# Altium schematic symbol library Project_Oshinoko.SchLib: 248 symbols (part 3 of 3)
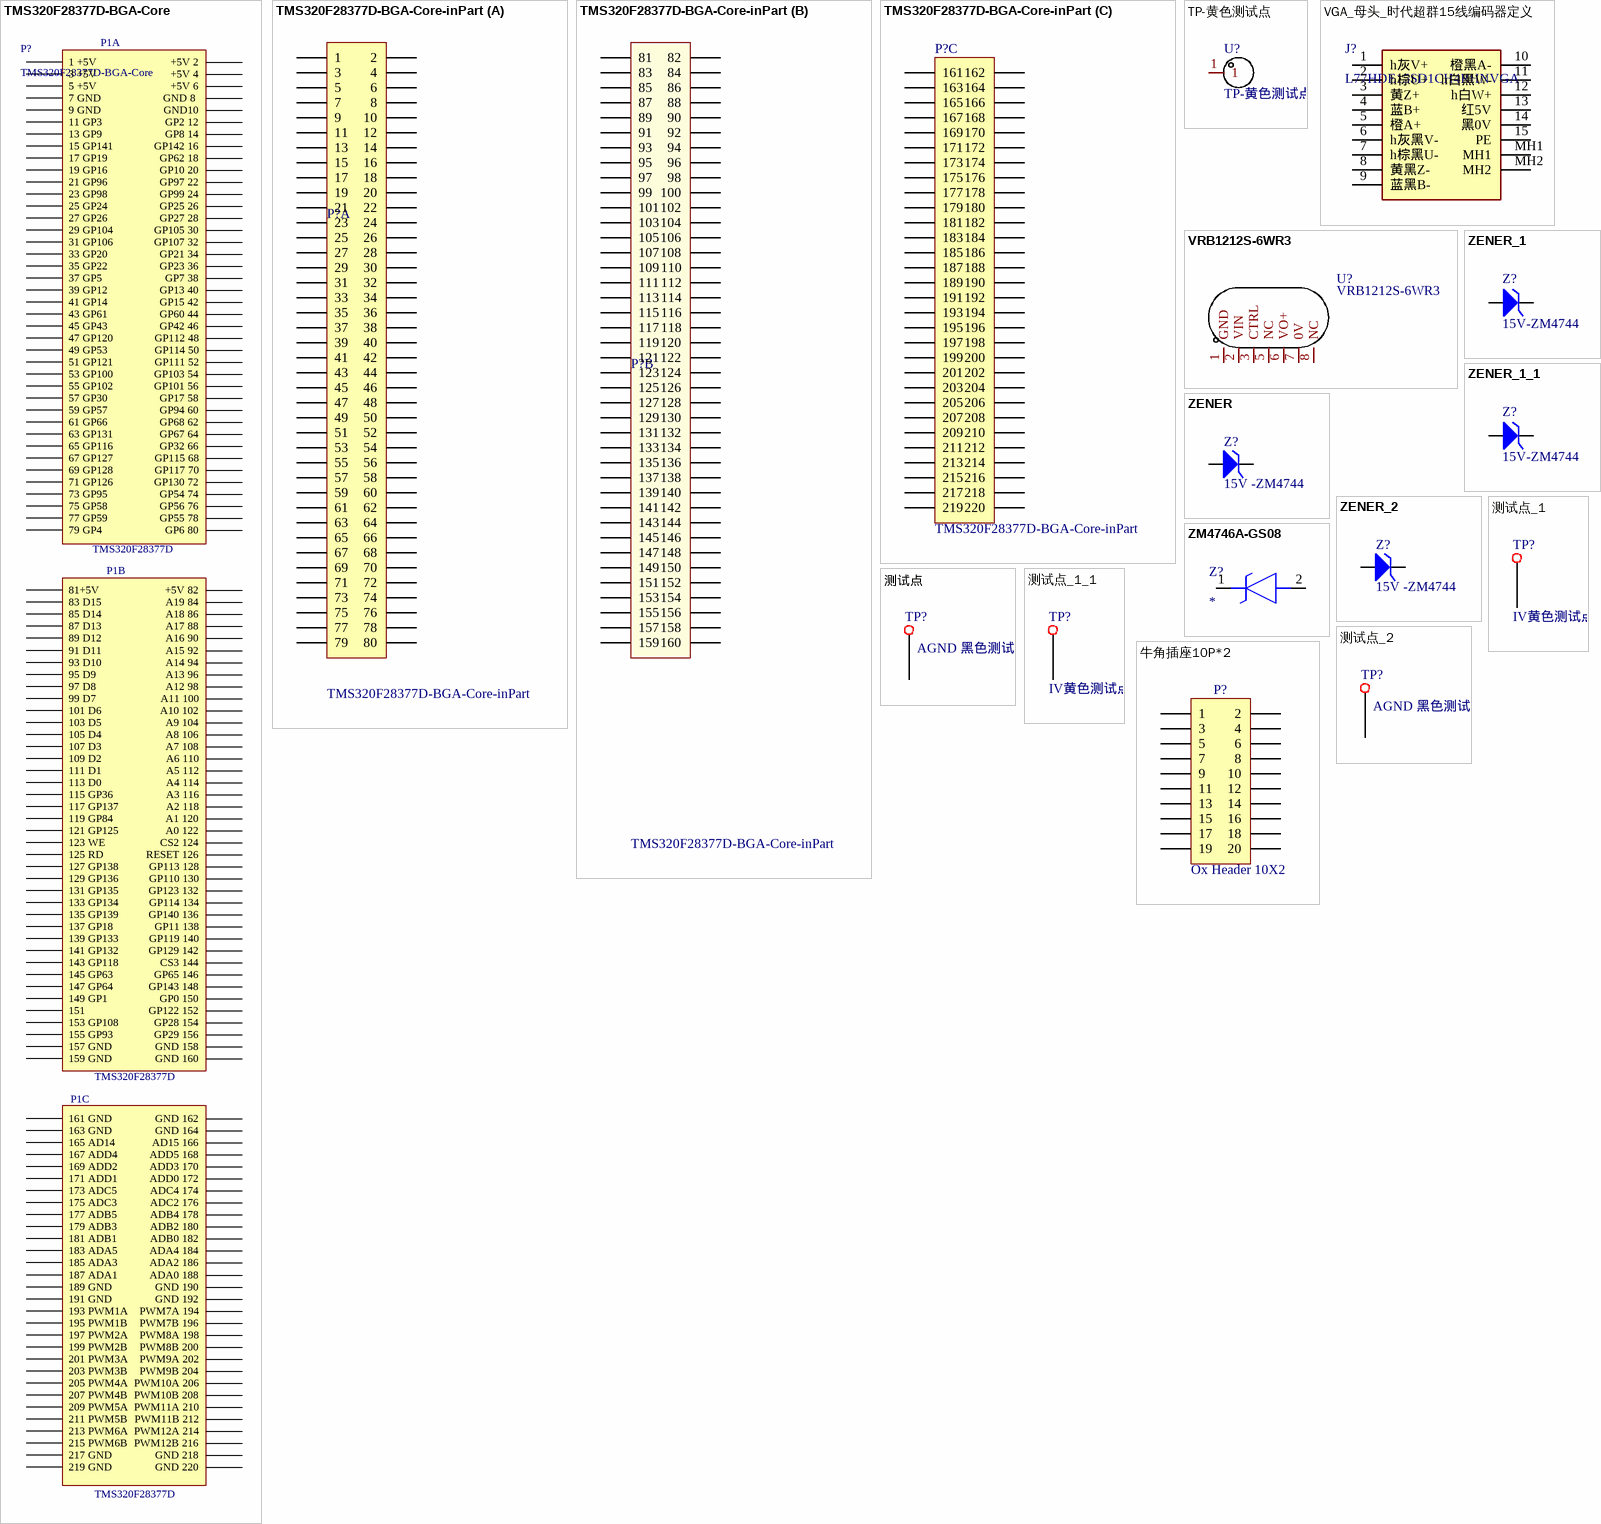
[diagram p9: symbols TMS320F28377D-BGA-Core to 牛角插座10P*2]

## TP-黄色测试点
designator U?
Add into BOM: yes; Symbol: TP-黄色测试点; Device: TP-黄色测试点; LCSC Part Name: TP-黄色测试点; Supplier Part: C9900007422; Manufacturer Part: TP-黄色测试点; Supplier Footprint: TESTPOINT-TH_BD-2P-P2.00; JLCPCB Part Class: Extended Part; Datasheet: https://atta.szlcsc.comnull; Supplier: LCSC; Convert to PCB: yes; Name: TP-黄色测试点
footprint TESTPOINT-TH_BD1.0
3D model TESTPOINT-TH_BD3.2
pins: 1

## VGA_母头_时代超群15线编码器定义
designator J?, comment L77HDE15SD1CH4RHNVGA
Connector; Manufacturer_Name: Amphenol; Datasheet Link: https://componentsearchengine.com/Datasheets/1/L77HDE15SD1CH4RHNVGA.pdf; Height: 12.55mm; Manufacturer_Part_Number: L77HDE15SD1CH4RHNVGA; Mouser Part Number: 523-7HDE15SDH4RHNVGA; Mouser Price/Stock: https://www.mouser.co.uk/ProductDetail/Amphenol-Commercial-Products/L77HDE15SD1CH4RHNVGA?qs=f9yNj16SXrKPVxRw%2FcVQYg%3D%3D; Arrow Part Number: L77HDE15SD1CH4RHNVGA; Arrow Price/Stock: https://www.arrow.com/en/products/l77hde15sd1ch4rhnvga/amphenol-fci?region=nac
footprint L77HDE15SD1CH4RHNVGA
pins: 1 h灰V+, 2 h棕U+, 3 黄Z+, 4 蓝B+, 5 橙A+, 6 h灰黑V-, 7 h棕黑U-, 8 黄黑Z-, 9 蓝黑B-, 10 橙黑A-, 11 h白黑W-, 12 h白W+, 13 红5V, 14 黑0V, 15 PE, MH1, MH2

## VRB1212S-6WR3
designator U?
输入电压(DC):9V~18V;输出电压:12V;输出电流(最大值):500mA;输出功率:6W;转换效率:84%;; Manufacturer: MORNSUN(金升阳); Add into BOM: yes; Output Channel: 1; Input Voltage(DC): 9V~18V; Output Voltage: 12V; Output Current (Max): 500mA; Output Power: 6W; Conversion Efficiency: 84%; Symbol: VRB1212S-6WR3; Device: VRB1212S-6WR3; LCSC Part Name: 输入9V~18V 输出12V 500mA 6W; Supplier Part: C2684876; Manufacturer Part: VRB1212S-6WR3; Supplier Footprint: 插件; JLCPCB Part Class: 扩展库; Datasheet: https://atta.szlcsc.com/upload/public/pdf/source/20210113/C2684875_85B724204689EA7052A85B7ABECFAE60.pdf; Supplier: LCSC; Convert to PCB: yes; Name: VRB1212S-6WR3
footprint PWRM-TH_VRB2405S-6WR3
3D model PWRM-TH_VRB2405S-6WR3
pins: 1 GND, 2 VIN, 3 CTRL, 5 NC, 6 VO+, 7 0V, 8 NC

## ZENER
designator Z?, comment 15V -ZM4744
Zener Diode
footprint Z/8/0.5/R2
footprint Z/10/1/R1
footprint LL4148
pins: 1 A, 2 K
2 alternate drawings of the same symbol

## ZENER_1
designator Z?, comment 15V-ZM4744
Zener Diode
footprint Z/8/0.5/R2
footprint Z/10/1/R1
footprint LL4148
pins: 1 A, 2 K
2 alternate drawings of the same symbol

## ZENER_1_1
designator Z?, comment 15V-ZM4744
Zener Diode
footprint Z/8/0.5/R2
footprint Z/10/1/R1
footprint LL4148
pins: 1 A, 2 K
2 alternate drawings of the same symbol

## ZENER_2
designator Z?, comment 15V -ZM4744
Zener Diode
footprint Z/8/0.5/R2
footprint Z/10/1/R1
footprint LL4148
pins: 1 A, 2 K
2 alternate drawings of the same symbol

## ZM4746A-GS08
designator Z?
Zener Diode; Manufacturer_Name: Vishay; Manufacturer_Part_Number: ZM4746A-GS08; Datasheet Link: https://www.vishay.com/docs/85786/zm4728a.pdf; Mouser Part Number: 625-ZM4746A; Mouser Price/Stock: https://www.mouser.co.uk/ProductDetail/Vishay-Semiconductors/ZM4746A-GS08?qs=oNDV51lhjEMLl7Fqtt9WtQ%3D%3D; Arrow Part Number: ZM4746A-GS08; Arrow Price/Stock: https://www.arrow.com/en/products/zm4746a-gs08/vishay?region=nac
footprint MELF_DO-213AB
pins: 1 K, 2 A

## 测试点
designator TP?, comment AGND 黑色测试点
footprint TP
pins: 1

## 测试点_1
designator TP?, comment IV黄色测试点
footprint TP
pins: 1

## 测试点_1_1
designator TP?, comment IV黄色测试点
footprint TP
pins: 1

## 测试点_2
designator TP?, comment AGND 黑色测试点
footprint TP
pins: 1

## 牛角插座10P*2
designator P?, comment Ox Header 10X2
Header, 10-Pin, Dual row; LatestRevisionDate: 17-Jul-2002; LatestRevisionNote: Re-released for DXP Platform.; Publisher: Altium Limited
footprint 2.54mm 20P_牛角插座
pins: 1, 2, 3, 4, 5, 6, 7, 8, 9, 10, 11, 12, 13, 14, 15, 16, 17, 18, 19, 20